# EAGLE library part DRV8302 (library RoboJackets-PowerICs)
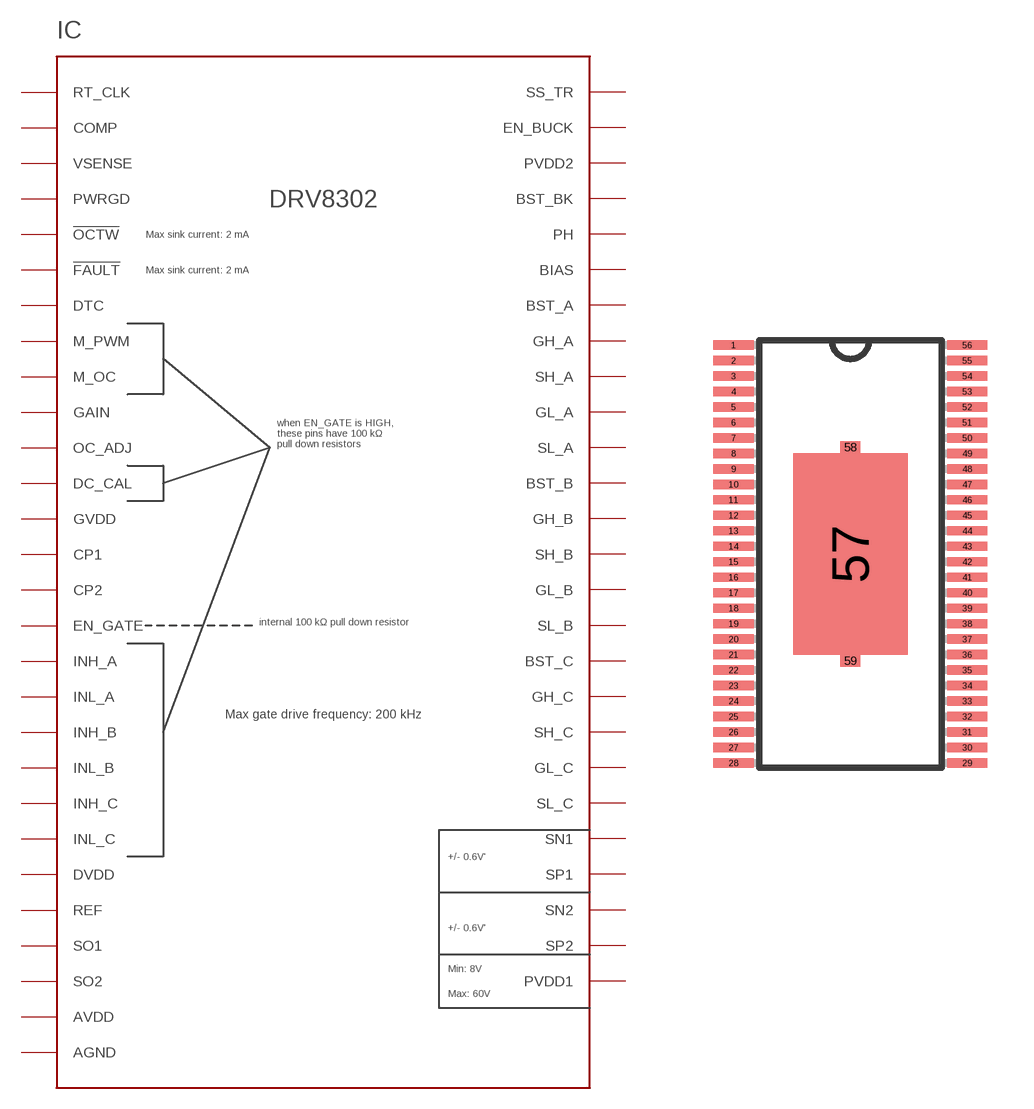
[diagram p2: symbol with the pads of TSSOP-56_3; footprint TSSOP-56_3]

Designator prefix IC

## DRV8302  [TSSOP-56_3]
1  RT_CLK  in
2  COMP  out
3  VSENSE  in
4  PWRGD  in
5  !OCTW!  oc
6  !FAULT!  oc
7  DTC  in
8  M_PWM  in
9  M_OC  in
10  GAIN  out
11  OC_ADJ  in
12  DC_CAL  in
13  GVDD  pwr
14  CP1  pwr
15  CP2  pwr
16  EN_GATE  in
17  INH_A  in
18  INL_A  in
19  INH_B  in
20  INL_B  in
21  INH_C  in
22  INL_C  in
23  DVDD  pwr
24  REF  in
25  SO1  out
26  SO2  out
27  AVDD  pwr
28  AGND  pwr
29  PVDD1  pwr
30  SP2  in
31  SN2  in
32  SP1  in
33  SN1  in
34  SL_C  in
35  GL_C  out
36  SH_C  in
37  GH_C  out
38  BST_C  pwr
39  SL_B  in
40  GL_B  out
41  SH_B  in
42  GH_B  out
43  BST_B  pwr
44  SL_A  in
45  GL_A  out
46  SH_A  in
47  GH_A  out
48  BST_A  pwr
49  BIAS  in
50  PH  out
51  PH  out
52  BST_BK  pwr
53  PVDD2
54  PVDD2
55  EN_BUCK  in
56  SS_TR  in
57  AGND  pwr
58  AGND  pwr
59  AGND  pwr

## Footprint TSSOP-56_3 (pad centres in mm)
TSSOP-56_3 Auto generated by make-symbol-device-package-bsdl.ulp Rev. 43
smd 1.3 x 0.3: 1 -3.775,6.75; 2 -3.775,6.25; 3 -3.775,5.75; 4 -3.775,5.25; 5 -3.775,4.75; 6 -3.775,4.25; 7 -3.775,3.75; 8 -3.775,3.25; 9 -3.775,2.75; 10 -3.775,2.25; 11 -3.775,1.75; 12 -3.775,1.25; 13 -3.775,0.75; 14 -3.775,0.25; 15 -3.775,-0.25; 16 -3.775,-0.75; 17 -3.775,-1.25; 18 -3.775,-1.75; 19 -3.775,-2.25; 20 -3.775,-2.75; 21 -3.775,-3.25; 22 -3.775,-3.75; 23 -3.775,-4.25; 24 -3.775,-4.75; 25 -3.775,-5.25; 26 -3.775,-5.75; 27 -3.775,-6.25; 28 -3.775,-6.75; 29 3.775,-6.75; 30 3.775,-6.25; 31 3.775,-5.75; 32 3.775,-5.25; 33 3.775,-4.75; 34 3.775,-4.25; 35 3.775,-3.75; 36 3.775,-3.25; 37 3.775,-2.75; 38 3.775,-2.25; 39 3.775,-1.75; 40 3.775,-1.25; 41 3.775,-0.75; 42 3.775,-0.25; 43 3.775,0.25; 44 3.775,0.75; 45 3.775,1.25; 46 3.775,1.75; 47 3.775,2.25; 48 3.775,2.75; 49 3.775,3.25; 50 3.775,3.75; 51 3.775,4.25; 52 3.775,4.75; 53 3.775,5.25; 54 3.775,5.75; 55 3.775,6.25; 56 3.775,6.75
smd 3.7 x 6.5: 57 0,0
smd 0.65 x 0.4: 58 0,3.45; 59 0,-3.45